# EAGLE library part G6C-2117P (library relay)
RELAY 1 x norm. open, 1x norm. closed, 10 A/240 V, Omron
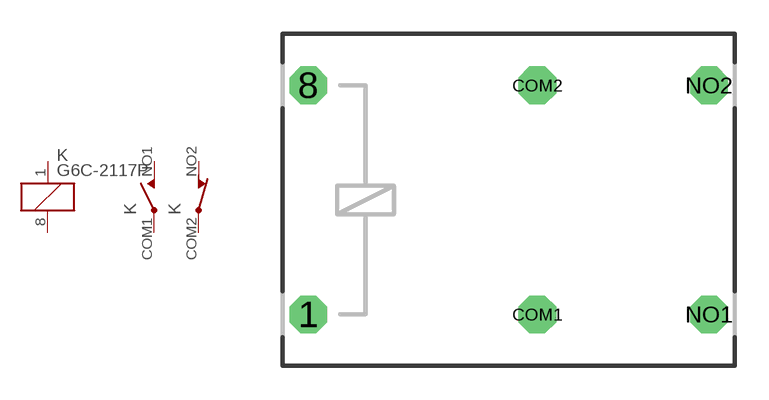
[diagram p8: symbol with the pads of G6C-2117P; footprint G6C-2117P]

Designator prefix K; gates 1=K 2=S 3=O

## G6C-2117P  [G6C-2117P]
1  1:1  pas
8  1:2  pas
COM1  2:COM  pas
COM2  3:COM  pas
NO1  2:NO  pas
NO2  3:NC  pas

## Footprint G6C-2117P (pad centres in mm)
RELAY 1 x norm. open, 1x norm. closed, 10 A/240 V, Omron
drill 1.118 octagon: 1 -8.89,-5.08; 8 -8.89,5.08; COM1 1.27,-5.08; COM2 1.27,5.08; NO1 8.89,-5.08; NO2 8.89,5.08